# EAGLE library part LM3409 (library ti-led-driver)
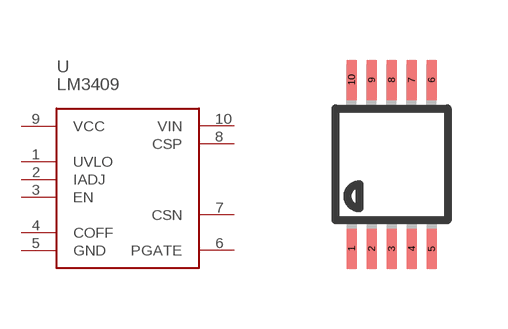
[diagram p0: symbol with the pads of MSOP10; footprint MSOP10]

Designator prefix -

## LM3409  [MSOP10]
1  UVLO
2  IADJ
3  EN
4  COFF
5  GND
6  PGATE
7  CSN
8  CSP
9  VCC
10  VIN

## Footprint MSOP10 (pad centres in mm)
10-Lead Mini Small Outline Package [MSOP] (RM-10) Source: http://www.analog.com/UploadedFiles/Data_Sheets/35641221898805SSM2167_b.pdf COMPLIANT TO JEDEC STANDARDS MO-187BA
smd 0.25 x 1: 1 -1,-2.113; 2 -0.5,-2.113; 3 0,-2.113; 4 0.5,-2.113; 5 1,-2.113; 6 1,2.113; 7 0.5,2.113; 8 0,2.113; 9 -0.5,2.113; 10 -1,2.113